# EAGLE library part ATMEGA328P-AU (library ATMEGA328P-AU)
MICROCHIP - ATMEGA328P-AU. - MICROCONTROLLER MCU, 8 BIT, ATMEGA, 20MHZ, TQFP-32 Source: Datasheet <https://componentsearchengine.com/Datasheets/2/ATMEGA328P-AU.pdf>
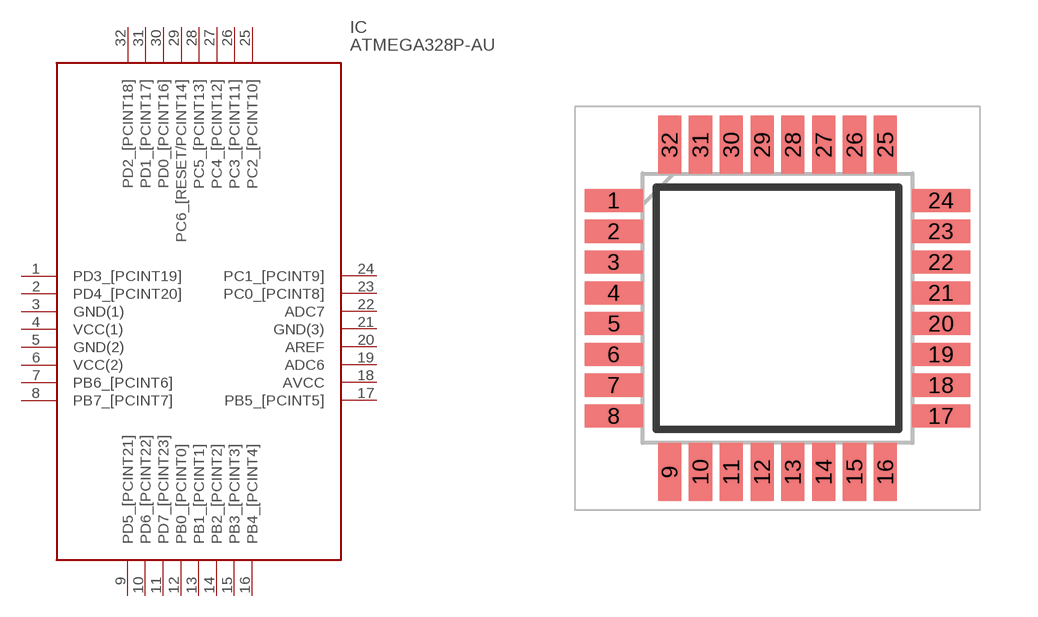
[diagram p0: symbol with the pads of QFP80P900X900X120-32N; footprint QFP80P900X900X120-32N]

Designator prefix IC

## ATMEGA328P-AU (Description: MICROCHIP - ATMEGA328P-AU. - MICROCONTROLLER MCU, 8 BIT, ATMEGA, 20MHZ, TQFP-32; Height: 1.2mm; Manufacturer_Name: Microchip; Manufacturer_Part_Number: ATMEGA328P-AU; RS_Part_Number: 1310271; RS_Price/Stock: http://uk.rs-online.com/web/p/products/1310271)  [QFP80P900X900X120-32N]
1  PD3_[PCINT19]  in
2  PD4_[PCINT20]  in
3  GND(1)  in
4  VCC(1)  in
5  GND(2)  in
6  VCC(2)  in
7  PB6_[PCINT6]  in
8  PB7_[PCINT7]  in
9  PD5_[PCINT21]  in
10  PD6_[PCINT22]  in
11  PD7_[PCINT23]  in
12  PB0_[PCINT0]  in
13  PB1_[PCINT1]  in
14  PB2_[PCINT2]  in
15  PB3_[PCINT3]  in
16  PB4_[PCINT4]  in
17  PB5_[PCINT5]  in
18  AVCC  in
19  ADC6  in
20  AREF  in
21  GND(3)  in
22  ADC7  in
23  PC0_[PCINT8]  in
24  PC1_[PCINT9]  in
25  PC2_[PCINT10]  in
26  PC3_[PCINT11]  in
27  PC4_[PCINT12]  in
28  PC5_[PCINT13]  in
29  PC6_[RESET/PCINT14]  in
30  PD0_[PCINT16]  in
31  PD1_[PCINT17]  in
32  PD2_[PCINT18]  in

## Footprint QFP80P900X900X120-32N (pad centres in mm)
32A
smd 1.5 x 0.6: 1 -4.25,2.8; 2 -4.25,2; 3 -4.25,1.2; 4 -4.25,0.4; 5 -4.25,-0.4; 6 -4.25,-1.2; 7 -4.25,-2; 8 -4.25,-2.8; 17 4.25,-2.8; 18 4.25,-2; 19 4.25,-1.2; 20 4.25,-0.4; 21 4.25,0.4; 22 4.25,1.2; 23 4.25,2; 24 4.25,2.8
smd 0.6 x 1.5: 9 -2.8,-4.25; 10 -2,-4.25; 11 -1.2,-4.25; 12 -0.4,-4.25; 13 0.4,-4.25; 14 1.2,-4.25; 15 2,-4.25; 16 2.8,-4.25; 25 2.8,4.25; 26 2,4.25; 27 1.2,4.25; 28 0.4,4.25; 29 -0.4,4.25; 30 -1.2,4.25; 31 -2,4.25; 32 -2.8,4.25